# Altium schematic symbol library SI-61001-F.SchLib: 1 symbol
Pins are listed as number, name and electrical type; pins without a type are passive.

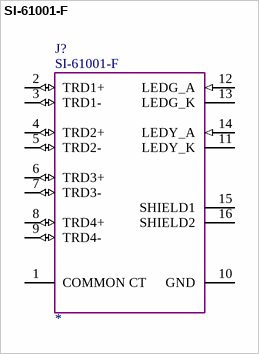
[diagram p0: symbol SI-61001-F]

## SI-61001-F
designator J?
Ethernet connector; SCH_Footprint: *
pins: 1 COMMON CT, 2 TRD1+ (io), 3 TRD1- (io), 4 TRD2+ (io), 5 TRD2- (io), 6 TRD3+ (io), 7 TRD3- (io), 8 TRD4+ (io), 9 TRD4- (io), 10 GND (power), 11 LEDY_K (power), 12 LEDG_A (in), 13 LEDG_K (power), 14 LEDY_A (in), 15 SHIELD1 (power), 16 SHIELD2 (power)
2 alternate drawings of the same symbol